# Altium schematic symbol library Molex_GPS_L1_L5_GLONASS_36MM_STACKED_2116240001.SchLib: 1 symbol
Pins are listed as number, name and electrical type; pins without a type are passive.

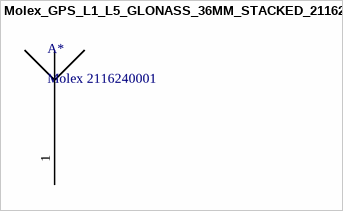
[diagram p0: symbol Molex_GPS_L1_L5_GLONASS_36MM_STACKED_2116240001]

## Molex_GPS_L1_L5_GLONASS_36MM_STACKED_2116240001
designator A*, comment Molex 2116240001
Supplier 1: Newark; Supplier Part Number 1: 211624-0001; ComponentLink1Description: Suppler 2; ComponentLink1URL: JLCPCB; ComponentLink2Description: Suppler Part Number 2; ComponentLink2URL: C177230
footprint Molex_GPS_L1_L5_GLONASS_36MM_STACKED_2116240001
pins: 1 ANT